# Altium footprint library STM32F103C8T6-4PCB库文件.PcbLib: 1 footprints
Each footprint in its own frame and in the unit in brackets; x right, y up, seen from the top. Pads: shape width x height; smd on the part's side, far side on the other; paste and mask are expansions set on the pad; w line width, h text height; cw(c..) or ccw(c..) is an arc to the next point about the centre after c.
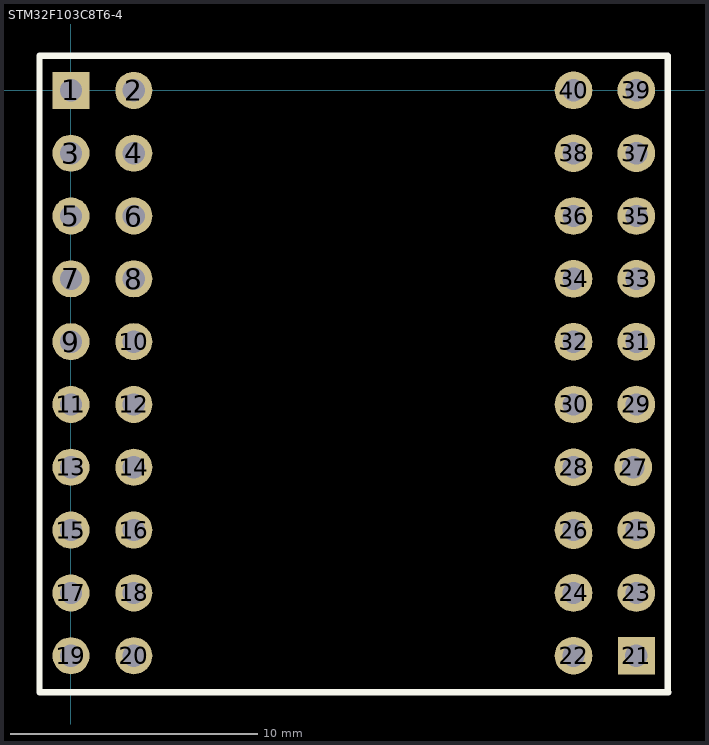
[diagram p0: the footprint, top view; thin cyan lines are the x and y axes]

## STM32F103C8T6-4 [mm]
pads (40):
  rect 1.5x1.5 hole 0.9: 1(0,0) 21(22.86,-22.86)
  round 1.5 hole 0.9: 2(2.54,0) 3(0,-2.54) 4(2.54,-2.54) 5(0,-5.08) 6(2.54,-5.08) 7(0,-7.62) 8(2.54,-7.62) 9(0,-10.16) 10(2.54,-10.16) 11(0,-12.7) 12(2.54,-12.7) 13(0,-15.24) 14(2.54,-15.24) 15(0,-17.78) 16(2.54,-17.78) 17(0,-20.32) 18(2.54,-20.32) 19(0,-22.86) 20(2.54,-22.86)
  round 1.524 hole 0.899: 22(20.32,-22.86) 23(22.86,-20.32) 24(20.32,-20.32) 25(22.86,-17.78) 26(20.32,-17.78) 27(22.733,-15.24) 28(20.32,-15.24) 29(22.86,-12.7) 30(20.32,-12.7) 31(22.86,-10.16) 32(20.32,-10.16) 33(22.86,-7.62) 34(20.32,-7.62) 35(22.86,-5.08) 36(20.32,-5.08) 37(22.86,-2.54) 38(20.32,-2.54) 39(22.86,0) 40(20.32,0)
Top Overlay:
  lines w0.254: 24.13,-24.333 24.13,1.397 -1.27,1.397 -1.27,-24.333 24.155,-24.333